# EAGLE library part LIS3DH (library NicksParts)
3 axis low power accelerometer from ST. Supports movement detection.
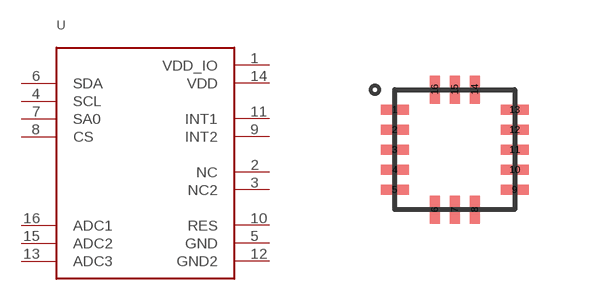
[diagram p23: symbol with the pads of LGA-16; footprint LGA-16]

Designator prefix U

## LIS3DH  [LGA-16]
1  VDD_IO
2  NC
3  NC2
4  SCL
5  GND
6  SDA
7  SA0
8  CS
9  INT2
10  RES
11  INT1
12  GND2
13  ADC3
14  VDD
15  ADC2
16  ADC1

## Footprint LGA-16 (pad centres in mm)
smd 0.7 x 0.25: 1 -1.5,1; 2 -1.5,0.5; 3 -1.5,0; 4 -1.5,-0.5; 5 -1.5,-1; 9 1.5,-1; 10 1.5,-0.5; 11 1.5,0; 12 1.5,0.5; 13 1.5,1
smd 0.25 x 0.7: 6 -0.5,-1.5; 7 0,-1.5; 8 0.5,-1.5; 14 0.5,1.5; 15 0,1.5; 16 -0.5,1.5